# EAGLE library part DIODE-SCHOTTKY-X4 (library pimoroni-passives)
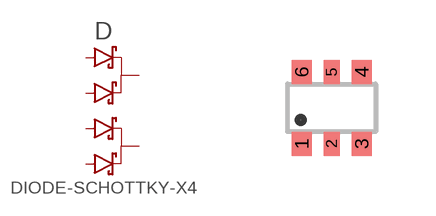
[diagram p2: symbol with the pads of SC-88; footprint SC-88]

Designator prefix D

## DIODE-SCHOTTKY-X41PS88SB48,115  [SC-88]
1  A1  pas
2  A2  pas
3  C2  pas
4  A3  pas
5  A4  pas
6  C1  pas

## Footprint SC-88 (pad centres in mm)
smd 0.5 x 0.6: 1 -0.75,-0.9; 3 0.75,-0.9; 4 0.75,0.9; 6 -0.75,0.9
smd 0.4 x 0.6: 2 0,-0.9; 5 0,0.9